# Altium schematic symbol library SCH - MEMORY - SAMSUNG KLMAG1JETD-B041.SchLib: 2 symbols
Pins are listed as number, name and electrical type; pins without a type are passive.

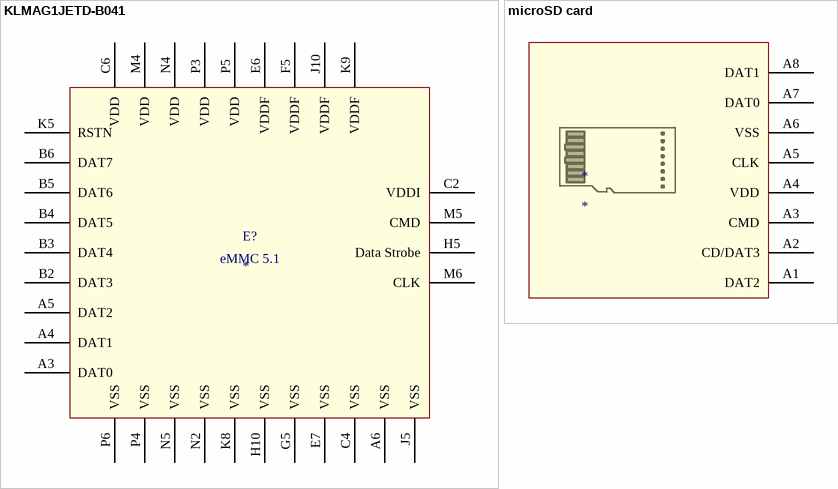
[diagram p0: symbols KLMAG1JETD-B041 to microSD card]

## KLMAG1JETD-B041
designator E?
footprint 153FBGAx0.3 (153 balls FBGA 0.3mm)
pins: A3 DAT0, A4 DAT1, A5 DAT2, A6 VSS, B2 DAT3, B3 DAT4, B4 DAT5, B5 DAT6, B6 DAT7, C2 VDDI, C4 VSS, C6 VDD, E6 VDDF, E7 VSS, F5 VDDF, G5 VSS, H5 Data Strobe, H10 VSS, J5 VSS, J10 VDDF, K5 RSTN, K8 VSS, K9 VDDF, M4 VDD, M5 CMD, M6 CLK, N2 VSS, N4 VDD, N5 VSS, P3 VDD, P4 VSS, P5 VDD, P6 VSS
text: eMMC 5.1

## microSD card
designator *
footprint microSD CARD
pins: A1 DAT2, A2 CD/DAT3, A3 CMD, A4 VDD, A5 CLK, A6 VSS, A7 DAT0, A8 DAT1